# EAGLE library part ESPRESSO-MICROSD-MODULE (library ESPkachu)
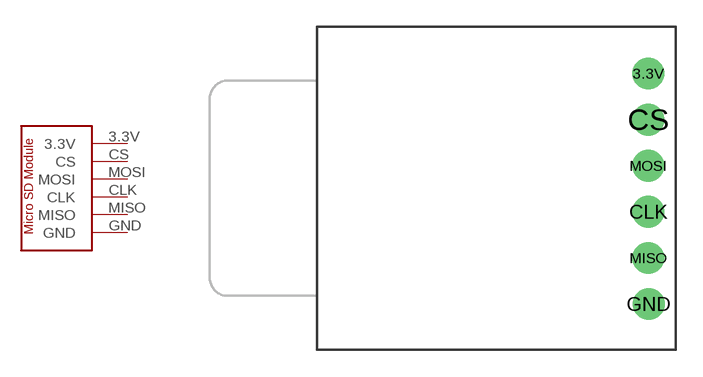
[diagram p0: symbol with the pads of ESPRESSO-MICROSD-MODULE; footprint ESPRESSO-MICROSD-MODULE]

Designator prefix -

## ESPRESSO-MICROSD-MODULE  [ESPRESSO-MICROSD-MODULE]
3.3V  3.3V
CLK  CLK
CS  CS
GND  GND
MISO  MISO
MOSI  MOSI

## Footprint ESPRESSO-MICROSD-MODULE (pad centres in mm)
drill 0.9 pad 1.778: 3.3V 20.476,15.9; CLK 20.476,8.186; CS 20.476,13.329; GND 20.5,3.043; MISO 20.476,5.614; MOSI 20.476,10.757